# Altium footprint library PressurePulse.PcbLib: 20 footprints (part 1 of 2)
Each footprint in its own frame and in the unit in brackets; x right, y up, seen from the top. Pads: shape width x height; smd on the part's side, far side on the other; paste and mask are expansions set on the pad; w line width, h text height; cw(c..) or ccw(c..) is an arc to the next point about the centre after c.
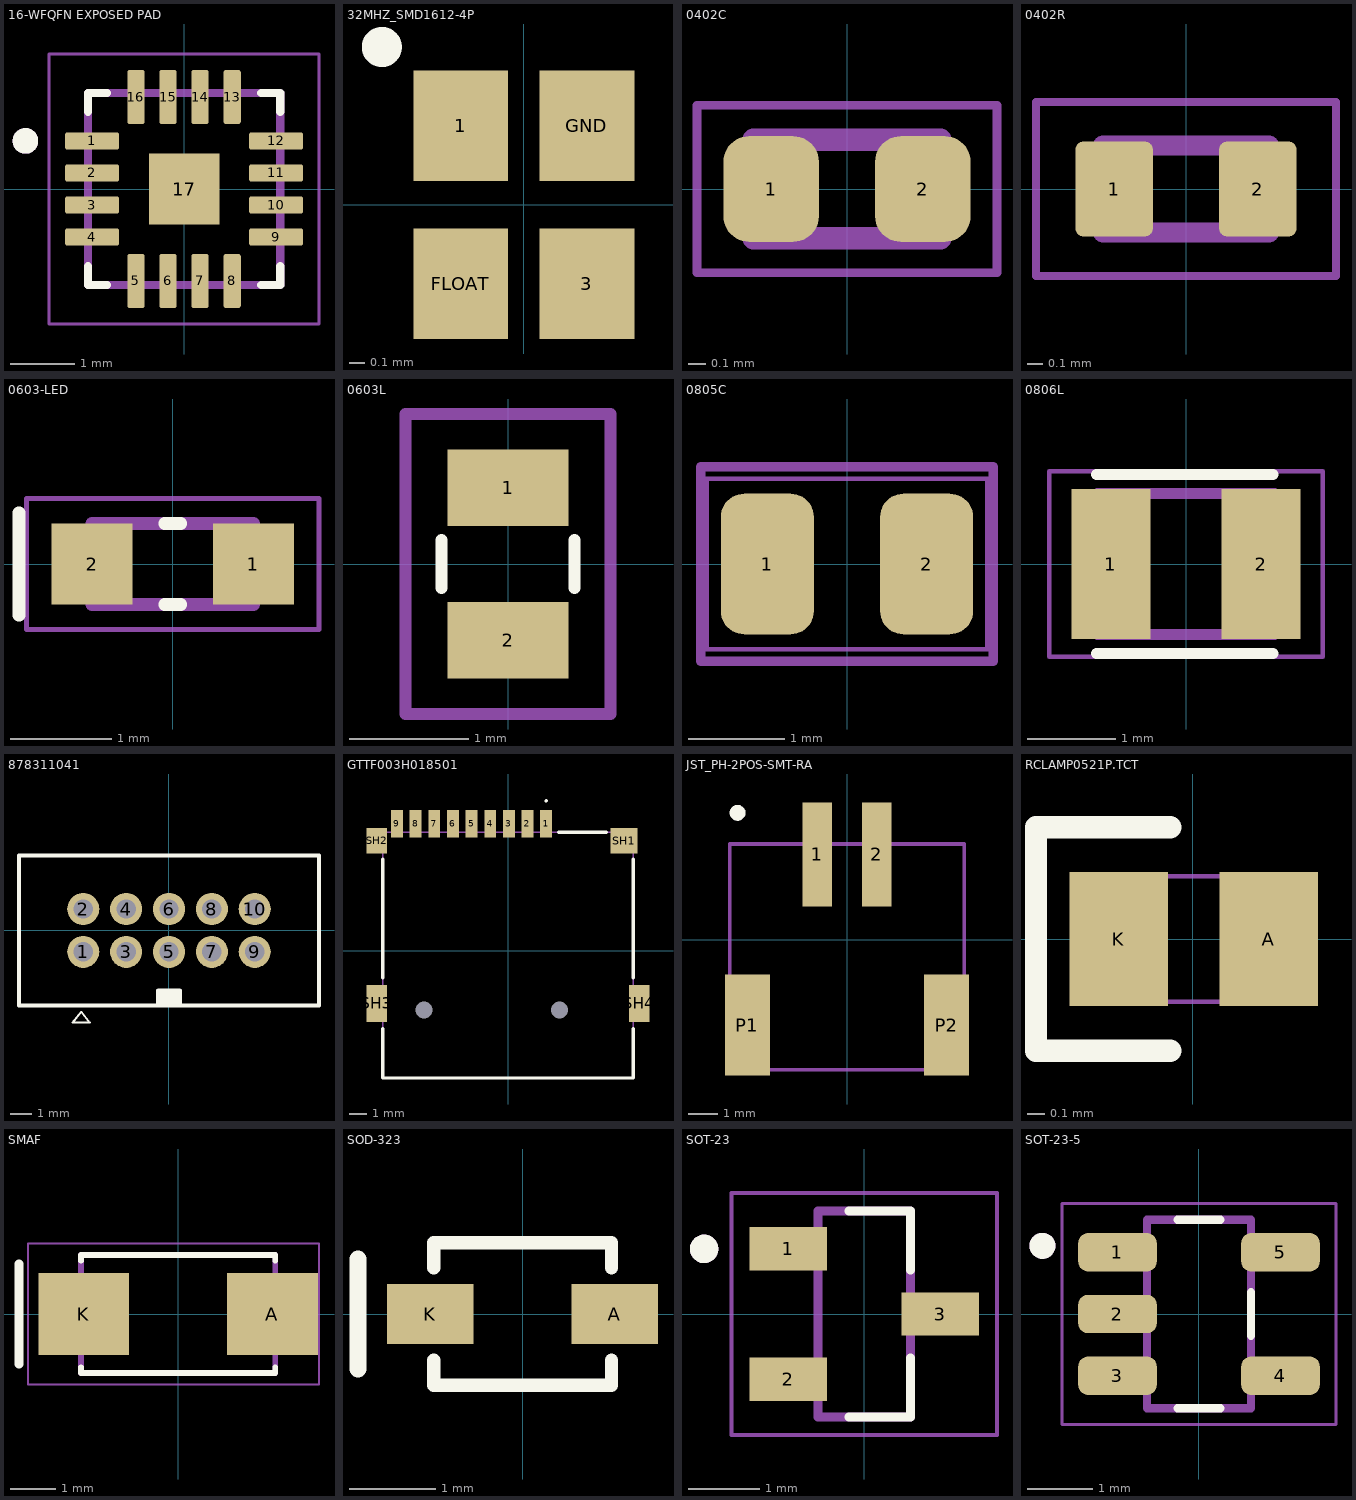
[diagram p0: the footprints below, top view; thin cyan lines are the x and y axes]

## 16-WFQFN EXPOSED PAD [mm]
pads (17):
  rrect25% 0.84x0.27 smd mask+0.051: 1(-1.435,0.75) 2(-1.435,0.25) 3(-1.435,-0.25) 4(-1.435,-0.75) 9(1.435,-0.75) 10(1.435,-0.25) 11(1.435,0.25) 12(1.435,0.75)
  rrect25% 0.27x0.84 smd mask+0.051: 5(-0.75,-1.435) 6(-0.25,-1.435) 7(0.25,-1.435) 8(0.75,-1.435) 13(0.75,1.435) 14(0.25,1.435) 15(-0.25,1.435) 16(-0.75,1.435)
  rect 1.1x1.1 smd paste-0.2 mask+0.051: 17(0,0)
Top Overlay:
  circle w0.2: c-2.475,0.75 r0.1
  lines w0.127: -1.5,-1.205 -1.5,-1.5 -1.205,-1.5 ; -1.5,1.205 -1.5,1.5 -1.205,1.5 ; 1.205,-1.5 1.5,-1.5 1.5,-1.205 ; 1.205,1.5 1.5,1.5 1.5,1.205
Mechanical 13:
  circle w0.2: c-2.475,0.75 r0.1
  lines w0.127: -1.5,-1.5 1.5,-1.5 1.5,1.5 -1.5,1.5 -1.5,-1.5
Mechanical 15:
  lines w0.05: -2.105,-2.105 2.105,-2.105 2.105,2.105 -2.105,2.105 -2.105,-2.105
3D body "MAX98357AETE+T.stp": height 0.8, standoff 0, extent -1.55,-1.551 1.55,1.549

## 32MHZ_SMD1612-4P [mm]
pads (4):
  rect 0.6x0.7 smd mask+0.025: 1(-0.4,0.5) 3(0.4,-0.5) FLOAT(-0.4,-0.5) GND(0.4,0.5)
Top Overlay:
  circle w0.152: c-0.9,1 r0.051
3D body "step_temp.STEP": height 0.35, standoff 0, extent -0.6,-0.8 0.6,0.8

## 0402C [mm] "0402 SMT Capacitor"
pads (2):
  rrect53% 0.54x0.6 smd: 1(-0.43,0) 2(0.43,0)
Mechanical 13:
  lines w0.127: -0.53,-0.28 -0.53,0.28 0.53,0.28 0.53,-0.28 -0.53,-0.28
Mechanical 15:
  lines w0.05: -0.85,-0.475 -0.85,0.475 0.85,0.475 0.85,-0.475 -0.85,-0.475
3D body "C0402.STEP": height 0.5, standoff 0, extent -0.5,-0.254 0.5,0.246

## 0402R [mm] "0402 SMT Resistor"
pads (2):
  rrect20% 0.49x0.6 smd: 1(-0.455,0) 2(0.455,0)
Mechanical 13:
  lines w0.127: -0.525,-0.275 0.525,-0.275 0.525,0.275 -0.525,0.275 -0.525,-0.275
Mechanical 15:
  lines w0.05: -0.95,-0.55 0.95,-0.55 0.95,0.55 -0.95,0.55 -0.95,-0.55
3D body "Resistor 0402.step": height 0.35, standoff 0, extent -0.75,-0.254 0.75,0.246

## 0603-LED [mm]
pads (2):
  rect 0.8x0.8 smd: 1(0.8,0) 2(-0.8,0)
Top Overlay:
  lines w0.127: -1.524,-0.508 -1.524,0.508 ; -0.08,-0.4 0.08,-0.4 ; -0.08,0.4 0.08,0.4
Mechanical 13:
  lines w0.127: -0.8,-0.4 -0.8,0.4 0.8,0.4 0.8,-0.4 -0.8,-0.4
Mechanical 15:
  lines w0.05: -1.45,-0.65 -1.45,0.65 1.45,0.65 1.45,-0.65 -1.45,-0.65
3D body "WL-SMCW SMT LED WURTH ELEKTRONIK 0603.step": height 0.7, standoff 0, extent -0.8,-0.35 0.8,0.35

## 0603L [mm]
pads (2):
  rect 1.02x0.64 smd: 1(0,0.64) 2(0,-0.64)
Top Overlay:
  lines w0.1: -0.56,-0.2 -0.56,0.2 ; 0.56,-0.2 0.56,0.2
Mechanical 15:
  lines w0.1: -0.86,-1.26 -0.86,1.26 0.86,1.26 0.86,-1.26 -0.86,-1.26
3D body "0603CS-12NXGLW.stp": height 1.02, standoff 0, extent -0.56,-0.9 0.56,0.9

## 0805C [mm]
pads (2):
  rrect50% 0.97x1.47 smd: 1(-0.83,0) 2(0.83,0)
Mechanical 15:
  lines w0.1: -1.524,-1.016 1.524,-1.016 1.524,1.016 -1.524,1.016 -1.524,-1.016
Mechanical 20:
  lines w0.05: -1.465,-0.89 1.465,-0.89 1.465,0.89 -1.465,0.89 -1.465,-0.89
3D body "GRM21BR70J106KA73L.stp": height 1.45, standoff 0, extent -1,-0.625 1,0.625

## 0806L [mm]
pads (2):
  rect 0.9x1.7 smd: 1(-0.85,0) 2(0.85,0)
Top Overlay:
  lines w0.127: -1.016,-1.016 0.984,-1.016 ; -1.016,1.016 0.984,1.016
Mechanical 13:
  lines w0.127: -1,-0.8 1,-0.8 1,0.8 -1,0.8 -1,-0.8
Mechanical 15:
  lines w0.05: -1.55,-1.05 1.55,-1.05 1.55,1.05 -1.55,1.05 -1.55,-1.05
3D body "LQH2MCN8R2M02L.STEP": height 1.08, standoff 0.13, extent -1,-0.777 1,0.823

## 878311041 [mm]
pads (10):
  round 1.5 hole 0.9: 1(-4,-1) 2(-4,1) 3(-2,-1) 4(-2,1) 5(0,-1) 6(0,1) 7(2,-1) 8(2,1) 9(4,-1) 10(4,1)
Top Overlay:
  rectangle: -0.5,-3.5 0.5,-2.8
  lines w0.1: -4.5,-4.3 -4.1,-3.8 -3.7,-4.3 -4.5,-4.3
  lines w0.2: -0.5,-3.5 -0.5,-2.8 0.5,-2.8 0.5,-3.5 ; -7,-3.5 -7,3.5 7,3.5 7,-2.5 7,-3.5 -7,-3.5
3D body "878311041.stp": height 6.5, standoff -2.4, extent -6.325,-3.2 6.325,3.1

## GTTF003H018501 [mm]
pads (15):
  rect 0.7x1.6 smd: 1(2.25,7.5) 2(1.15,7.5) 3(0.05,7.5) 4(-1.05,7.5) 5(-2.15,7.5) 6(-3.25,7.5) 7(-4.35,7.5) 8(-5.45,7.5) 9(-6.55,7.5)
  round 0.5 hole 1 unplated: MH1(3.05,-3.5) MH2(-4.95,-3.5)
  rect 1.6x1.5 smd: SH1(6.85,6.5)
  rect 1.2x1.5 smd: SH2(-7.75,6.5)
  rect 1.2x2.2 smd: SH3(-7.75,-3.1) SH4(7.75,-3.1)
Top Overlay:
  lines w0.1: 2.25,8.8 ccw(c2.25,8.85) 2.25,8.9 ccw(c2.25,8.85) 2.25,8.8
  lines w0.2: -7.395,-4.6 -7.395,-7.5 7.395,-7.5 7.395,-4.6 ; -7.395,-1.6 -7.395,5.4 ; 3,7 5.8,7 ; 7.395,5.4 7.4,-1.6
Mechanical 15:
  lines w0.1: -7.395,-7.5 7.395,-7.5 7.395,7 -7.395,7 -7.395,-7.5
3D body "MEM2075-00-140-01-A.stp": height 1.4, standoff -0.6, extent -8.115,-7.75 8.325,8.1

## JST_PH-2POS-SMT-RA [mm]
pads (4):
  rect 1x3.5 smd: 1(-1,2.875) 2(1,2.875)
  rect 1.5x3.4 smd: P1(-3.35,-2.875) P2(3.35,-2.875)
Top Overlay:
  circle w0.279: c-3.683,4.272 r0.127
Mechanical 13:
  lines w0.127: -3.95,-4.375 -3.95,3.225 3.95,3.225 3.95,-4.375 -3.95,-4.375
3D body "S2B-PH-SM4-TB--3DModel-STEP-269445.STEP": height 5.5, standoff -0.1, extent -3.95,-4.375 3.95,4.225

## RCLAMP0521P.TCT [mil]
pads (2):
  rect 22x30 smd paste+0 mask+2: A(17,0) K(-16.5,0)
Top Overlay:
  lines w5: -5,-25 -35,-25 -35,25 -5,25
Mechanical 13:
  lines w1: 21.5,-14 -21.5,-14 -21.5,14 21.5,14 ; 25.5,-14 25.5,14
3D body "CR_RCLAMP05_SEM.step": height 22.09, standoff 0, extent -21.5,-14.02 21.5,14.02

## SMAF [mm]
height 1.1
pads (2):
  rect 2x1.8 smd: A(2.075,0) K(-2.075,0)
Top Overlay:
  lines w0.127: -2.137,-1.17 -2.137,-1.3 2.137,-1.3 2.137,-1.17 ; -2.137,1.17 -2.137,1.3 2.137,1.3 2.137,1.17
  lines w0.2: -3.5,-1.1 -3.5,1.1
Mechanical 13:
  lines w0.127: -2.137,-1.3 2.137,-1.3 2.137,1.3 -2.137,1.3 -2.137,-1.3
Mechanical 15:
  lines w0.05: -3.3,-1.55 3.1,-1.55 3.1,1.55 -3.3,1.55 -3.3,-1.55
3D body "step_temp.STEP": height 1.1, standoff 0, extent -2.6,-1.3 2.6,1.3

## SOD-323 [mm]
pads (2):
  rect 1x0.7 smd paste+0 mask+0: A(1.068,0) K(-1.068,0)
Top Overlay:
  lines w0.152: -1.029,-0.536 -1.029,-0.826 1.029,-0.826 1.029,-0.536 ; -1.029,0.536 -1.029,0.826 1.029,0.826 1.029,0.536
  lines w0.2: -1.905,-0.635 -1.905,0.635
3D body "CR_SOD-323_HOT.step": height 0.99, standoff 0, extent -1.372,-0.698 1.372,0.698

## SOT-23 [mm]
pads (3):
  rect 1.09x0.61 smd: 1(-1.07,0.915) 2(-1.07,-0.915) 3(1.07,0)
Top Overlay:
  circle w0.2: c-2.25,0.915 r0.1
  lines w0.127: -0.212,-1.45 0.65,-1.45 0.65,-0.619 ; -0.212,1.45 0.65,1.45 0.65,0.619
Mechanical 13:
  circle w0.2: c-2.25,0.915 r0.1
  lines w0.127: -0.65,-1.45 0.65,-1.45 0.65,1.45 -0.65,1.45 -0.65,-1.45
Mechanical 15:
  lines w0.05: -1.865,-1.7 1.865,-1.7 1.865,1.7 -1.865,1.7 -1.865,-1.7
3D body "step_temp.STEP": height 1.2, standoff 0, extent -1.2,-1.45 1.2,1.45

## SOT-23-5 [mm]
pads (5):
  rrect50% 1.21x0.59 smd: 1(-1.255,0.95) 2(-1.255,0) 3(-1.255,-0.95) 4(1.255,-0.95) 5(1.255,0.95)
Top Overlay:
  circle w0.2: c-2.41,1.05 r0.1
  lines w0.127: -0.33,-1.45 0.33,-1.45 ; -0.33,1.45 0.33,1.45 ; 0.8,-0.335 0.8,0.335
Mechanical 13:
  circle w0.2: c-2.41,1.05 r0.1
  lines w0.127: -0.8,-1.45 0.8,-1.45 0.8,1.45 -0.8,1.45 -0.8,-1.45
Mechanical 15:
  lines w0.05: -2.11,-1.7 -2.11,1.7 2.11,1.7 2.11,-1.7 -2.11,-1.7
3D body "DBV0005A.stp": height 1.2, standoff 0, extent -1.375,-1.45 1.425,1.45